# EAGLE library part ATTINY13-20MMU (library atmega-atxmega)
8-bit Microcontroller with 1K Bytes In-System Programmable Flash
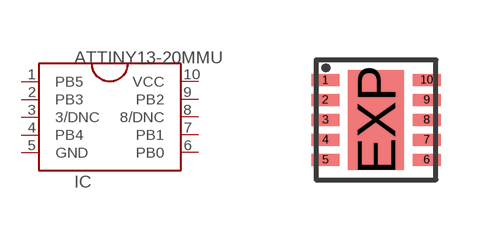
[diagram p158: symbol with the pads of QFN10; footprint QFN10]

Designator prefix IC

## ATTINY13-20MMU  [QFN10]
1  PB5
2  PB3
3  3/DNC  nc
4  PB4
5  GND  pwr
6  PB0
7  PB1
8  8/DNC  nc
9  PB2
10  VCC  pwr

## Footprint QFN10 (pad centres in mm)
QFN10 10M1, 10-pad, 3 x 3 x 1.0 mm Body, Lead Pitch 0.50 mm, 1.64 x 2.60 mm Exposed Pad,JEDEC reference MO-229C,
smd 0.7 x 0.3: 1 -1.27,0.99; 2 -1.27,0.5; 3 -1.27,0; 4 -1.27,-0.5; 5 -1.27,-1; 6 1.27,-1; 7 1.27,-0.5; 8 1.27,0; 9 1.27,0.5; 10 1.27,1
smd 1.4 x 2.5: EXP 0,0